# Altium footprint library 4.31-HT-5.08mm弯针立式贴片插座.PcbLib: 11 footprints
Each footprint in its own frame and in the unit in brackets; x right, y up, seen from the top. Pads: shape width x height; smd on the part's side, far side on the other; paste and mask are expansions set on the pad; w line width, h text height; cw(c..) or ccw(c..) is an arc to the next point about the centre after c.
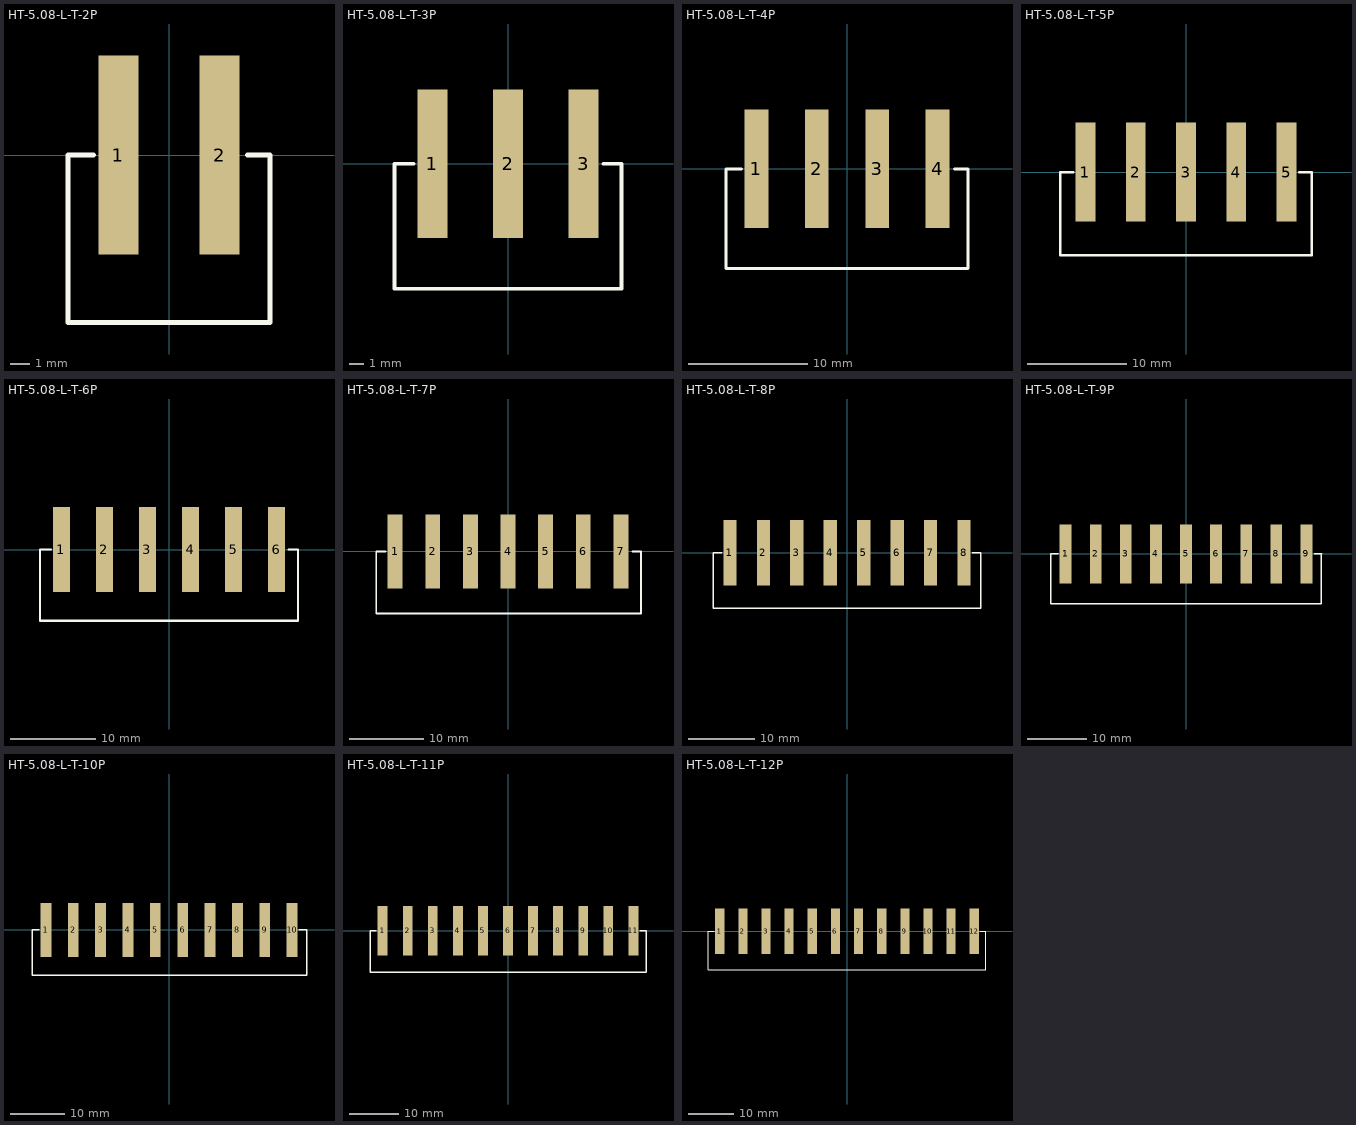
[diagram p0: the footprints below, top view; thin cyan lines are the x and y axes]

## HT-5.08-L-T-2P [mm] "间距5.08mm，弯针立式贴片      [ PCB学习群514746572 ]"
pads (2):
  rect 2x10 smd: 1(-2.54,0) 2(2.54,0)
Top Overlay:
  lines w0.254: -3.8,0 -5.08,0 -5.08,-8.4 5.08,-8.4 5.08,0 ; 3.94,0 5.06,0
3D body "HT-5.08_SMD.STEP": height -0.39, standoff -11.69, extent -5.08,-8.5 0,3
3D body "HT-5.08_SMD.STEP": height -0.39, standoff -11.69, extent 0,-8.5 5.08,3

## HT-5.08-L-T-3P [mm] "间距5.08mm，弯针立式贴片      [ PCB学习群514746572 ]"
pads (3):
  rect 2x10 smd: 1(-5.08,0) 2(0,0) 3(5.08,0)
Top Overlay:
  lines w0.254: -6.34,0 -7.62,0 -7.62,-8.4 7.62,-8.4 7.62,0 ; 6.4,0 7.52,0
3D body "HT-5.08_SMD.STEP": height -0.39, standoff -11.69, extent -2.54,-8.5 2.54,3
3D body "HT-5.08_SMD.STEP": height -0.39, standoff -11.69, extent 2.54,-8.5 7.62,3
3D body "HT-5.08_SMD.STEP": height -0.39, standoff -11.69, extent -7.62,-8.5 -2.54,3

## HT-5.08-L-T-4P [mm] "间距5.08mm，弯针立式贴片      [ PCB学习群514746572 ]"
pads (4):
  rect 2x10 smd: 1(-7.62,0) 2(-2.54,0) 3(2.54,0) 4(7.62,0)
Top Overlay:
  lines w0.254: -8.88,0 -10.16,0 -10.16,-8.4 10.16,-8.4 10.16,0 9.04,0
3D body "HT-5.08_SMD.STEP": height -0.39, standoff -11.69, extent 0,-8.5 5.08,3
3D body "HT-5.08_SMD.STEP": height -0.39, standoff -11.69, extent 5.08,-8.5 10.16,3
3D body "HT-5.08_SMD.STEP": height -0.39, standoff -11.69, extent -10.16,-8.5 -5.08,3
3D body "HT-5.08_SMD.STEP": height -0.39, standoff -11.69, extent -5.08,-8.5 0,3

## HT-5.08-L-T-5P [mm] "间距5.08mm，弯针立式贴片      [ PCB学习群514746572 ]"
pads (5):
  rect 2x10 smd: 1(-10.16,0) 2(-5.08,0) 3(0,0) 4(5.08,0) 5(10.16,0)
Top Overlay:
  lines w0.254: -11.42,0 -12.7,0 -12.7,-8.4 12.7,-8.4 12.7,0 ; 11.44,0 12.58,0
3D body "HT-5.08_SMD.STEP": height -0.39, standoff -11.69, extent -12.7,-8.5 -7.62,3
3D body "HT-5.08_SMD.STEP": height -0.39, standoff -11.69, extent 2.54,-8.5 7.62,3
3D body "HT-5.08_SMD.STEP": height -0.39, standoff -11.69, extent 7.62,-8.5 12.7,3
3D body "HT-5.08_SMD.STEP": height -0.39, standoff -11.69, extent -7.62,-8.5 -2.54,3
3D body "HT-5.08_SMD.STEP": height -0.39, standoff -11.69, extent -2.54,-8.5 2.54,3

## HT-5.08-L-T-6P [mm] "间距5.08mm，弯针立式贴片      [ PCB学习群514746572 ]"
pads (6):
  rect 2x10 smd: 1(-12.7,0) 2(-7.62,0) 3(-2.54,0) 4(2.54,0) 5(7.62,0) 6(12.7,0)
Top Overlay:
  lines w0.254: -13.96,0 -15.24,0 -15.24,-8.4 15.24,-8.4 15.24,0 14.1,0
3D body "HT-5.08_SMD.STEP": height -0.39, standoff -11.69, extent 5.08,-8.5 10.16,3
3D body "HT-5.08_SMD.STEP": height -0.39, standoff -11.69, extent 10.16,-8.5 15.24,3
3D body "HT-5.08_SMD.STEP": height -0.39, standoff -11.69, extent -5.08,-8.5 0,3
3D body "HT-5.08_SMD.STEP": height -0.39, standoff -11.69, extent 0,-8.5 5.08,3
3D body "HT-5.08_SMD.STEP": height -0.39, standoff -11.69, extent -15.24,-8.5 -10.16,3
3D body "HT-5.08_SMD.STEP": height -0.39, standoff -11.69, extent -10.16,-8.5 -5.08,3

## HT-5.08-L-T-7P [mm] "间距5.08mm，弯针立式贴片      [ PCB学习群514746572 ]"
pads (7):
  rect 2x10 smd: 1(-15.24,0) 2(-10.16,0) 3(-5.08,0) 4(0,0) 5(5.08,0) 6(10.16,0) 7(15.24,0)
Top Overlay:
  lines w0.254: -16.5,0 -17.78,0 -17.78,-8.4 17.96,-8.4 17.96,0 16.76,0
3D body "HT-5.08_SMD.STEP": height -0.39, standoff -11.69, extent 7.62,-8.5 12.7,3
3D body "HT-5.08_SMD.STEP": height -0.39, standoff -11.69, extent 12.7,-8.5 17.78,3
3D body "HT-5.08_SMD.STEP": height -0.39, standoff -11.69, extent -2.54,-8.5 2.54,3
3D body "HT-5.08_SMD.STEP": height -0.39, standoff -11.69, extent 2.54,-8.5 7.62,3
3D body "HT-5.08_SMD.STEP": height -0.39, standoff -11.69, extent -12.7,-8.5 -7.62,3
3D body "HT-5.08_SMD.STEP": height -0.39, standoff -11.69, extent -7.62,-8.5 -2.54,3
3D body "HT-5.08_SMD.STEP": height -0.39, standoff -11.69, extent -17.78,-8.5 -12.7,3

## HT-5.08-L-T-8P [mm] "间距5.08mm，弯针立式贴片      [ PCB学习群514746572 ]"
pads (8):
  rect 2x10 smd: 1(-17.78,0) 2(-12.7,0) 3(-7.62,0) 4(-2.54,0) 5(2.54,0) 6(7.62,0) 7(12.7,0) 8(17.78,0)
Top Overlay:
  lines w0.254: -19.04,0 -20.32,0 -20.32,-8.4 20.32,-8.4 20.32,0 ; 19.02,0 20.22,0
3D body "HT-5.08_SMD.STEP": height -0.39, standoff -11.69, extent 10.16,-8.5 15.24,3
3D body "HT-5.08_SMD.STEP": height -0.39, standoff -11.69, extent 15.24,-8.5 20.32,3
3D body "HT-5.08_SMD.STEP": height -0.39, standoff -11.69, extent 0,-8.5 5.08,3
3D body "HT-5.08_SMD.STEP": height -0.39, standoff -11.69, extent 5.08,-8.5 10.16,3
3D body "HT-5.08_SMD.STEP": height -0.39, standoff -11.69, extent -10.16,-8.5 -5.08,3
3D body "HT-5.08_SMD.STEP": height -0.39, standoff -11.69, extent -5.08,-8.5 0,3
3D body "HT-5.08_SMD.STEP": height -0.39, standoff -11.69, extent -20.32,-8.5 -15.24,3
3D body "HT-5.08_SMD.STEP": height -0.39, standoff -11.69, extent -15.24,-8.5 -10.16,3

## HT-5.08-L-T-9P [mm] "间距5.08mm，弯针立式贴片      [ PCB学习群514746572 ]"
pads (9):
  rect 2x10 smd: 1(-20.32,0) 2(-15.24,0) 3(-10.16,0) 4(-5.08,0) 5(0,0) 6(5.08,0) 7(10.16,0) 8(15.24,0) 9(20.32,0)
Top Overlay:
  lines w0.254: -21.58,0 -22.86,0 -22.86,-8.4 22.86,-8.4 22.86,0 ; 21.68,0 22.88,0
3D body "HT-5.08_SMD.STEP": height -0.39, standoff -11.69, extent -12.7,-8.5 -7.62,3
3D body "HT-5.08_SMD.STEP": height -0.39, standoff -11.69, extent -17.78,-8.5 -12.7,3
3D body "HT-5.08_SMD.STEP": height -0.39, standoff -11.69, extent -2.54,-8.5 2.54,3
3D body "HT-5.08_SMD.STEP": height -0.39, standoff -11.69, extent -7.62,-8.5 -2.54,3
3D body "HT-5.08_SMD.STEP": height -0.39, standoff -11.69, extent 7.62,-8.5 12.7,3
3D body "HT-5.08_SMD.STEP": height -0.39, standoff -11.69, extent 2.54,-8.5 7.62,3
3D body "HT-5.08_SMD.STEP": height -0.39, standoff -11.69, extent 17.78,-8.5 22.86,3
3D body "HT-5.08_SMD.STEP": height -0.39, standoff -11.69, extent 12.7,-8.5 17.78,3
3D body "HT-5.08_SMD.STEP": height -0.39, standoff -11.69, extent -22.86,-8.5 -17.78,3

## HT-5.08-L-T-10P [mm] "间距5.08mm，弯针立式贴片      [ PCB学习群514746572 ]"
pads (10):
  rect 2x10 smd: 1(-22.86,0) 2(-17.78,0) 3(-12.7,0) 4(-7.62,0) 5(-2.54,0) 6(2.54,0) 7(7.62,0) 8(12.7,0) 9(17.78,0) 10(22.86,0)
Top Overlay:
  lines w0.254: -24.12,0 -25.4,0 -25.4,-8.4 25.54,-8.4 25.54,0 24.14,0
3D body "HT-5.08_SMD.STEP": height -0.39, standoff -11.69, extent -20.32,-8.5 -15.24,3
3D body "HT-5.08_SMD.STEP": height -0.39, standoff -11.69, extent -25.4,-8.5 -20.32,3
3D body "HT-5.08_SMD.STEP": height -0.39, standoff -11.69, extent -10.16,-8.5 -5.08,3
3D body "HT-5.08_SMD.STEP": height -0.39, standoff -11.69, extent -15.24,-8.5 -10.16,3
3D body "HT-5.08_SMD.STEP": height -0.39, standoff -11.69, extent 0,-8.5 5.08,3
3D body "HT-5.08_SMD.STEP": height -0.39, standoff -11.69, extent -5.08,-8.5 0,3
3D body "HT-5.08_SMD.STEP": height -0.39, standoff -11.69, extent 10.16,-8.5 15.24,3
3D body "HT-5.08_SMD.STEP": height -0.39, standoff -11.69, extent 5.08,-8.5 10.16,3
3D body "HT-5.08_SMD.STEP": height -0.39, standoff -11.69, extent 20.32,-8.5 25.4,3
3D body "HT-5.08_SMD.STEP": height -0.39, standoff -11.69, extent 15.24,-8.5 20.32,3

## HT-5.08-L-T-11P [mm] "间距5.08mm，弯针立式贴片      [ PCB学习群514746572 ]"
pads (11):
  rect 2x10 smd: 1(-25.4,0) 2(-20.32,0) 3(-15.24,0) 4(-10.16,0) 5(-5.08,0) 6(0,0) 7(5.08,0) 8(10.16,0) 9(15.24,0) 10(20.32,0) 11(25.4,0)
Top Overlay:
  lines w0.254: -26.66,0 -27.94,0 -27.94,-8.4 28,-8.4 28,0 26.74,0
3D body "HT-5.08_SMD.STEP": height -0.39, standoff -11.69, extent 17.78,-8.5 22.86,3
3D body "HT-5.08_SMD.STEP": height -0.39, standoff -11.69, extent 22.86,-8.5 27.94,3
3D body "HT-5.08_SMD.STEP": height -0.39, standoff -11.69, extent 7.62,-8.5 12.7,3
3D body "HT-5.08_SMD.STEP": height -0.39, standoff -11.69, extent 12.7,-8.5 17.78,3
3D body "HT-5.08_SMD.STEP": height -0.39, standoff -11.69, extent -2.54,-8.5 2.54,3
3D body "HT-5.08_SMD.STEP": height -0.39, standoff -11.69, extent 2.54,-8.5 7.62,3
3D body "HT-5.08_SMD.STEP": height -0.39, standoff -11.69, extent -12.7,-8.5 -7.62,3
3D body "HT-5.08_SMD.STEP": height -0.39, standoff -11.69, extent -7.62,-8.5 -2.54,3
3D body "HT-5.08_SMD.STEP": height -0.39, standoff -11.69, extent -22.86,-8.5 -17.78,3
3D body "HT-5.08_SMD.STEP": height -0.39, standoff -11.69, extent -17.78,-8.5 -12.7,3
3D body "HT-5.08_SMD.STEP": height -0.39, standoff -11.69, extent -27.94,-8.5 -22.86,3

## HT-5.08-L-T-12P [mm] "间距5.08mm，弯针立式贴片      [ PCB学习群514746572 ]"
pads (12):
  rect 2x10 smd: 1(-27.94,0) 2(-22.86,0) 3(-17.78,0) 4(-12.7,0) 5(-7.62,0) 6(-2.54,0) 7(2.54,0) 8(7.62,0) 9(12.7,0) 10(17.78,0) 11(22.86,0) 12(27.94,0)
Top Overlay:
  lines w0.254: -29.2,0 -30.48,0 -30.48,-8.4 30.48,-8.4 30.48,0 29.2,0
3D body "HT-5.08_SMD.STEP": height -0.39, standoff -11.69, extent 20.32,-8.5 25.4,3
3D body "HT-5.08_SMD.STEP": height -0.39, standoff -11.69, extent 25.4,-8.5 30.48,3
3D body "HT-5.08_SMD.STEP": height -0.39, standoff -11.69, extent 10.16,-8.5 15.24,3
3D body "HT-5.08_SMD.STEP": height -0.39, standoff -11.69, extent 15.24,-8.5 20.32,3
3D body "HT-5.08_SMD.STEP": height -0.39, standoff -11.69, extent 0,-8.5 5.08,3
3D body "HT-5.08_SMD.STEP": height -0.39, standoff -11.69, extent 5.08,-8.5 10.16,3
3D body "HT-5.08_SMD.STEP": height -0.39, standoff -11.69, extent -10.16,-8.5 -5.08,3
3D body "HT-5.08_SMD.STEP": height -0.39, standoff -11.69, extent -5.08,-8.5 0,3
3D body "HT-5.08_SMD.STEP": height -0.39, standoff -11.69, extent -20.32,-8.5 -15.24,3
3D body "HT-5.08_SMD.STEP": height -0.39, standoff -11.69, extent -15.24,-8.5 -10.16,3
3D body "HT-5.08_SMD.STEP": height -0.39, standoff -11.69, extent -30.48,-8.5 -25.4,3
3D body "HT-5.08_SMD.STEP": height -0.39, standoff -11.69, extent -25.4,-8.5 -20.32,3